# Altium footprint library CAP-Electrolitic-Hor-LA-p2.5mm-D4mm-L9mm.PcbLib: 1 footprints
Each footprint in its own frame and in the unit in brackets; x right, y up, seen from the top. Pads: shape width x height; smd on the part's side, far side on the other; paste and mask are expansions set on the pad; w line width, h text height; cw(c..) or ccw(c..) is an arc to the next point about the centre after c.
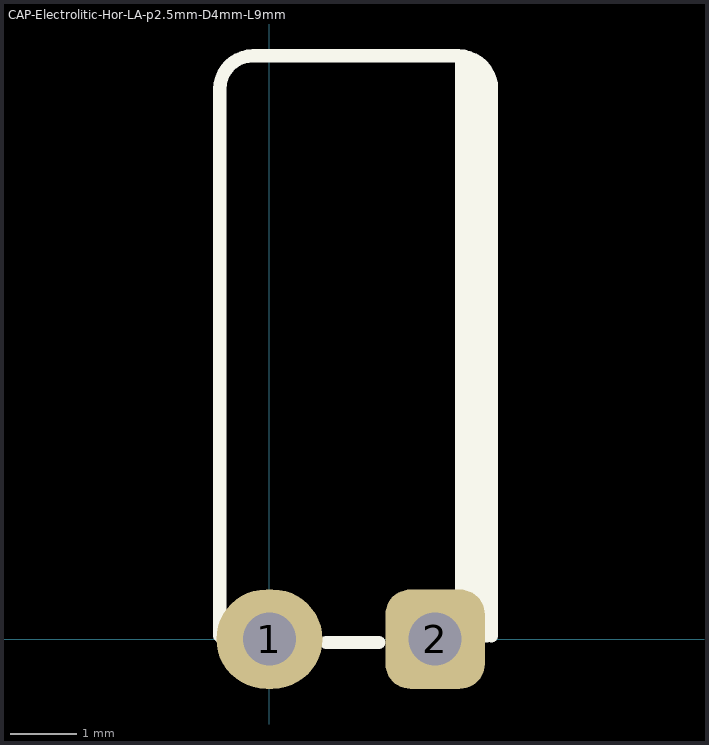
[diagram p0: the footprint, top view; thin cyan lines are the x and y axes]

## CAP-Electrolitic-Hor-LA-p2.5mm-D4mm-L9mm [mm]
pads (2):
  oval 1.6x1.5 hole 0.8: 1(0,0)
  rrect50% 1.5x1.5 hole 0.8: 2(2.5,0)
Top Overlay:
  rectangle: 2.802,-0.05 3.302,8.7
  lines w0.2: -0.748,0.05 -0.748,8.25 ; -0.748,8.3 cw(c-0.248,8.3) -0.248,8.8 ; -0.198,8.8 2.802,8.8 ; 0.852,-0.05 1.652,-0.05 ; 2.852,8.8 cw(c2.852,8.3) 3.352,8.3 ; 3.352,0.05 3.352,8.25
3D body "ElCapLA-1.5-4x7.step": height 4.1, standoff -3, extent -0.751,-0.313 3.25,8.713